# Altium schematic symbol library DF9-41P-1V_32_.SchLib: 1 symbol
Pins are listed as number, name and electrical type; pins without a type are passive.

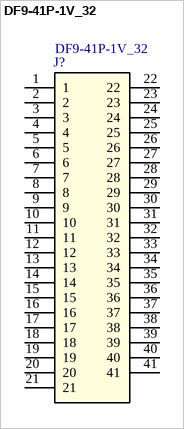
[diagram p0: symbol DF9-41P-1V_32]

## DF9-41P-1V_32
designator J?
Hirose DF9 Series, 1mm Pitch 41 Way 2 Row Straight PCB Header, Solder Termination, 0.5A; Manufacturer_Part_Number: DF9-41P-1V(32); Manufacturer_Name: Hirose; Mouser Part Number: 798-DF9-41P-1V32; Mouser Price/Stock: https://www.mouser.co.uk/ProductDetail/Hirose-Connector/DF9-41P-1V32?qs=zOgoZG1CgI%252BzVCgniEkwOw%3D%3D; Arrow Part Number: DF9-41P-1V(32); Arrow Price/Stock: https://www.arrow.com/en/products/df9-41p-1v-32/hirose-electric; Datasheet Link: http://componentsearchengine.com/Datasheets/1/DF9-41P-1V(32).pdf
footprint HIROSE_DF9-41P-1V(32)
pins: 1, 2, 3, 4, 5, 6, 7, 8, 9, 10, 11, 12, 13, 14, 15, 16, 17, 18, 19, 20, 21, 22, 23, 24, 25, 26, 27, 28, 29, 30, 31, 32, 33, 34, 35, 36, 37, 38, 39, 40, 41